# Altium schematic symbol library PCA9685PW,118.SchLib: 1 symbol
Pins are listed as number, name and electrical type; pins without a type are passive.

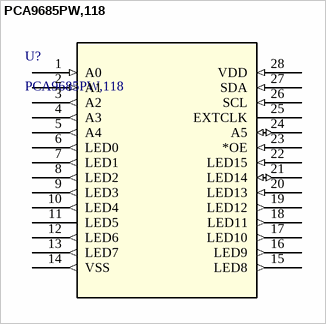
[diagram p0: symbol PCA9685PW,118]

## PCA9685PW,118
designator U?
Description; Manufacturer_Name: NXP; Copyright: Copyright (C) 2026 Ultra Librarian. All rights reserved.; Manufacturer_Part_Number: PCA9685PW,118; RefDes: RefDes; Type: Type
footprint TSSOP28_SOT361-1_NXP
pins: 1 A0 (in), 2 A1 (in), 3 A2 (out), 4 A3 (out), 5 A4 (out), 6 LED0 (out), 7 LED1 (out), 8 LED2 (out), 9 LED3 (out), 10 LED4 (out), 11 LED5 (power), 12 LED6 (out), 13 LED7 (out), 14 VSS (out), 15 LED8 (out), 16 LED9 (out), 17 LED10 (out), 18 LED11 (out), 19 LED12 (out), 20 LED13 (in), 21 LED14 (io), 22 LED15 (in), 23 *OE (in), 24 A5 (io), 25 EXTCLK (power), 26 SCL (in), 27 SDA (in), 28 VDD (in)